# Altium schematic symbol library STUSB4500.SchLib: 1 symbol
Pins are listed as number, name and electrical type; pins without a type are passive.

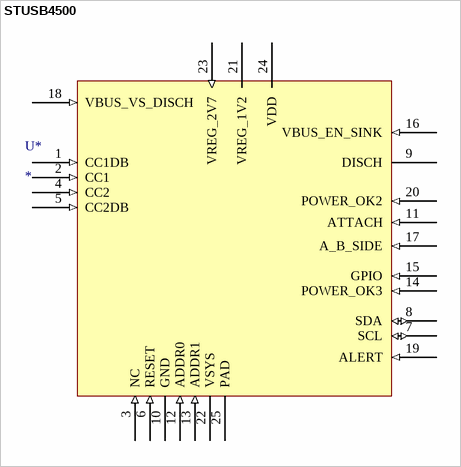
[diagram p0: symbol STUSB4500]

## STUSB4500
designator U*
stusb4500 PD ic
footprint QFN50P400X400X80_HS-25N (QFN, 24-Leads, Body 4,00x4,00mm, Pitch 0,50mm, Thermal Pad 2,68x2,68mm, IPC Medium Density)
pins: 1 CC1DB (in) "dead batt enable", 2 CC1 (in), 3 NC (in), 4 CC2 (in), 5 CC2DB (in), 6 RESET (in), 7 SCL (io), 8 SDA (io), 9 DISCH (power), 10 GND (power), 11 ATTACH (in), 12 ADDR0 (in), 13 ADDR1 (in), 14 POWER_OK3 (in), 15 GPIO (in), 16 VBUS_EN_SINK (in), 17 A_B_SIDE (in), 18 VBUS_VS_DISCH (in), 19 ALERT (in), 20 POWER_OK2 (in), 21 VREG_1V2 (power), 22 VSYS (power), 23 VREG_2V7 (in), 24 VDD (power), 25 PAD (power)